# Altium footprint library V80212MS.PcbLib: 1 footprints
Each footprint in its own frame and in the unit in brackets; x right, y up, seen from the top. Pads: shape width x height; smd on the part's side, far side on the other; paste and mask are expansions set on the pad; w line width, h text height; cw(c..) or ccw(c..) is an arc to the next point about the centre after c.
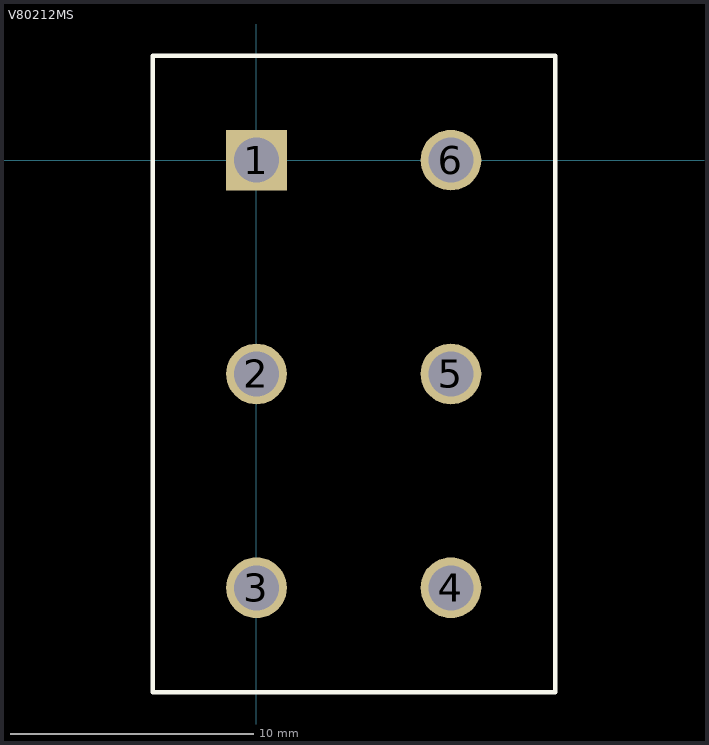
[diagram p0: the footprint, top view; thin cyan lines are the x and y axes]

## V80212MS [mm]
pads (6):
  rect 2.5x2.5 hole 1.85: 1(0,0)
  round 2.5 hole 1.85: 2(0,-8.8) 3(0,-17.6) 4(8,-17.6) 5(8,-8.8) 6(8,0)
Top Overlay:
  lines w0.2: -4.267,-21.895 12.294,-21.895 12.294,4.293 -4.267,4.293 -4.267,-21.895
3D body: height 15.82, standoff -4.44, extent -4.216,-21.882 12.294,4.305